# Altium footprint library IC_DSP.PcbLib: 2 footprints
Each footprint in its own frame and in the unit in brackets; x right, y up, seen from the top. Pads: shape width x height; smd on the part's side, far side on the other; paste and mask are expansions set on the pad; w line width, h text height; cw(c..) or ccw(c..) is an arc to the next point about the centre after c.
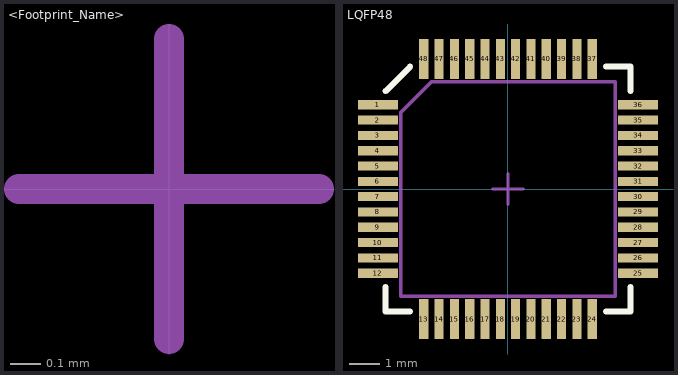
[diagram p0: the footprints below, top view; thin cyan lines are the x and y axes]

## <Footprint_Name> [mm] "<Package_Name>, <Number_of_pins>, <Pitch_in_mm>"
height 2.5
ReperDotTop:
  lines w0.1: -0.5,0 0.5,0 ; 0,-0.5 0,0.5
AssemblyOutlineTop:
  text "'.Designator'" at 0,0 h2.5

## LQFP48 [mm] "ST-48 Package, 48 pins, Pitch 0.5 mm"
height 2.5
pads (48):
  rect 1.3x0.3 smd mask+0.1: 1(-4.25,2.75) 2(-4.25,2.25) 3(-4.25,1.75) 4(-4.25,1.25) 5(-4.25,0.75) 6(-4.25,0.25) 7(-4.25,-0.25) 8(-4.25,-0.75) 9(-4.25,-1.25) 10(-4.25,-1.75) 11(-4.25,-2.25) 12(-4.25,-2.75) 25(4.25,-2.75) 26(4.25,-2.25) 27(4.25,-1.75) 28(4.25,-1.25) 29(4.25,-0.75) 30(4.25,-0.25) 31(4.25,0.25) 32(4.25,0.75) 33(4.25,1.25) 34(4.25,1.75) 35(4.25,2.25) 36(4.25,2.75)
  rect 0.3x1.3 smd mask+0.1: 13(-2.75,-4.25) 14(-2.25,-4.25) 15(-1.75,-4.25) 16(-1.25,-4.25) 17(-0.75,-4.25) 18(-0.25,-4.25) 19(0.25,-4.25) 20(0.75,-4.25) 21(1.25,-4.25) 22(1.75,-4.25) 23(2.25,-4.25) 24(2.75,-4.25) 37(2.75,4.25) 38(2.25,4.25) 39(1.75,4.25) 40(1.25,4.25) 41(0.75,4.25) 42(0.25,4.25) 43(-0.25,4.25) 44(-0.75,4.25) 45(-1.25,4.25) 46(-1.75,4.25) 47(-2.25,4.25) 48(-2.75,4.25)
Top Overlay:
  lines w0.2: -4,-3.2 -4,-4 -3.2,-4 ; -4,3.2 -3.2,4 ; 3.2,-4 4,-4 4,-3.2 ; 3.2,4 4,4 4,3.2
ReperDotTop:
  lines w0.1: -0.5,0 0.5,0 ; 0,-0.5 0,0.5
AssemblyOutlineTop:
  lines w0.12: -3.5,-3.5 -3.5,2.5 -2.5,3.5 3.5,3.5 3.5,-3.5 -3.5,-3.5
  text "'.Designator'" at 0,0 h2.5
3D body "User Library-P-LQFP48-7x7-0_50.step": height 1.45, standoff 0, extent -4.5,-4.5 4.5,4.5